# Altium schematic symbol library Cap.Schlib: 1 symbol
Pins are listed as number, name and electrical type; pins without a type are passive.

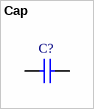
[diagram p0: symbol Cap]

## Cap
designator C?  (value not drawn)
Capacitor
pins: 1, 2